# Altium footprint library ATtiny261.PcbLib: 1 footprints
Each footprint in its own frame and in the unit in brackets; x right, y up, seen from the top. Pads: shape width x height; smd on the part's side, far side on the other; paste and mask are expansions set on the pad; w line width, h text height; cw(c..) or ccw(c..) is an arc to the next point about the centre after c.
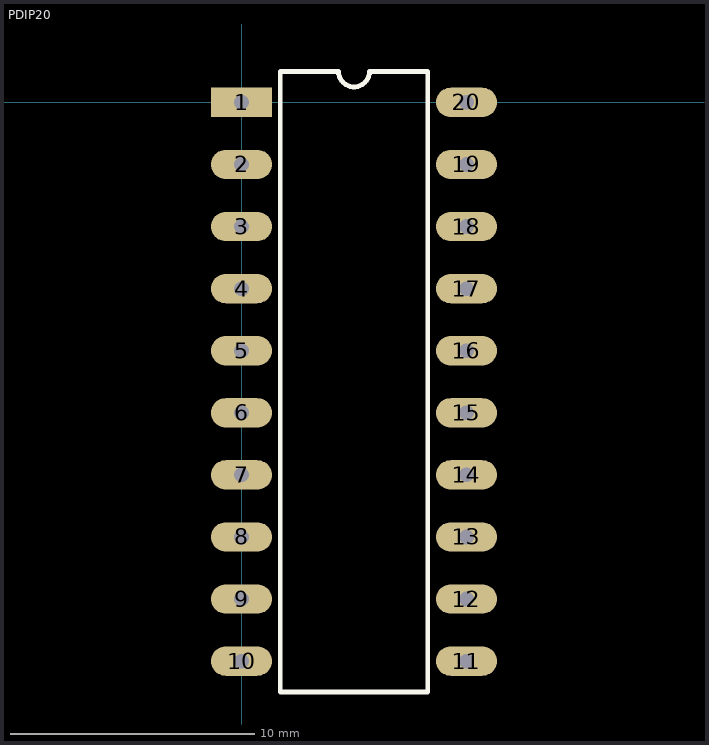
[diagram p0: the footprint, top view; thin cyan lines are the x and y axes]

## PDIP20 [mm]
pads (20):
  rect 2.5x1.2 hole 0.6: 1(0,0)
  oval 2.5x1.2 hole 0.6: 2(0,-2.54) 3(0,-5.08) 4(0,-7.62) 5(0,-10.16) 6(0,-12.7) 7(0,-15.24) 8(0,-17.78) 9(0,-20.32) 10(0,-22.86) 11(9.2,-22.86) 12(9.2,-20.32) 13(9.2,-17.78) 14(9.2,-15.24) 15(9.2,-12.7) 16(9.2,-10.16) 17(9.2,-7.62) 18(9.2,-5.08) 19(9.2,-2.54) 20(9.2,0)
Top Overlay:
  lines w0.2: 1.585,-24.13 7.615,-24.13 7.615,1.27 5.235,1.27 cw(c4.6,1.27) 3.965,1.27 1.585,1.27 1.585,-24.13
3D body "PDIP20.stp": height 4.82, standoff -2.34, extent 0.082,-24.667 9.082,1.873